# EAGLE library part LOLIN32_LITE (library Lolin32_lite)
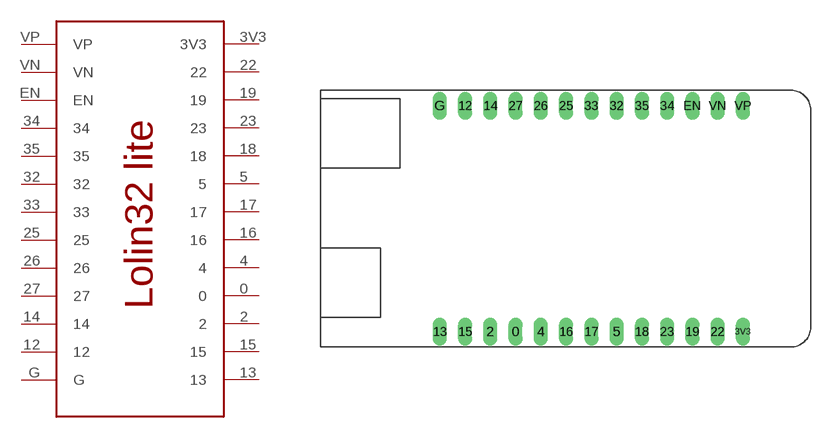
[diagram p0: symbol with the pads of LOLIN32_LITE; footprint LOLIN32_LITE]

Designator prefix -

## LOLIN32_LITETHROUGH_THE_HOLE  [LOLIN32_LITE]
0  0
2  2
3V3  3V3
4  4
5  5
12  12
13  13
14  14
15  15
16  16
17  17
18  18
19  19
22  22
23  23
25  25
26  26
27  27
32  32
33  33
34  34
35  35
EN  EN
G  G
VN  VN
VP  VP

## Footprint LOLIN32_LITE (pad centres in mm)
drill 0.9 pad 1.1 long: 0 -7.05,-11.15; 2 -9.59,-11.15; 3V3 15.81,-11.15; 4 -4.51,-11.15; 5 3.11,-11.15; 12 -12.13,11.6; 13 -14.67,-11.15; 14 -9.59,11.6; 15 -12.13,-11.15; 16 -1.97,-11.15; 17 0.57,-11.15; 18 5.65,-11.15; 19 10.73,-11.15; 22 13.27,-11.15; 23 8.19,-11.15; 25 -1.97,11.6; 26 -4.51,11.6; 27 -7.05,11.6; 32 3.11,11.6; 33 0.57,11.6; 34 8.19,11.6; 35 5.65,11.6; EN 10.73,11.6; G -14.67,11.6; VN 13.27,11.6; VP 15.81,11.6